# Altium integrated library USB-A.IntLib: 1 symbol
Pins are listed as number, name and electrical type; pins without a type are passive.

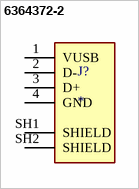
[diagram p0: symbol 6364372-2]

## 6364372-2
designator J?
Conn USB 2.0 Type A RCP 4 POS Solder RA Thru-Hole 4 Terminal 1 Port Box/Tube; MP: 6364372-2; MF: TE Connectivity; SnapEDA_Link: https://www.snapeda.com/parts/6364372-2/TE+Connectivity+AMP+Connectors/view-part/?ref=snap; Package: None; Check_prices: https://www.snapeda.com/parts/6364372-2/TE+Connectivity+AMP+Connectors/view-part/?ref=eda; Purchase-URL: https://pricing.snapeda.com/search/part/6364372-2/?ref=eda; Digi-Key_Part_Number: A122647-ND; EU_RoHS_Compliance: Compliant; Value: *
footprint TE_6364372-2
pins: 1 VUSB, 2 D-, 3 D+, 4 GND, SH1 SHIELD, SH2 SHIELD